# Altium footprint library Orion Sleep - Control Board - Rev 2.PcbLib: 102 footprints (part 3 of 7)
Each footprint in its own frame and in the unit in brackets; x right, y up, seen from the top. Pads: shape width x height; smd on the part's side, far side on the other; paste and mask are expansions set on the pad; w line width, h text height; cw(c..) or ccw(c..) is an arc to the next point about the centre after c.
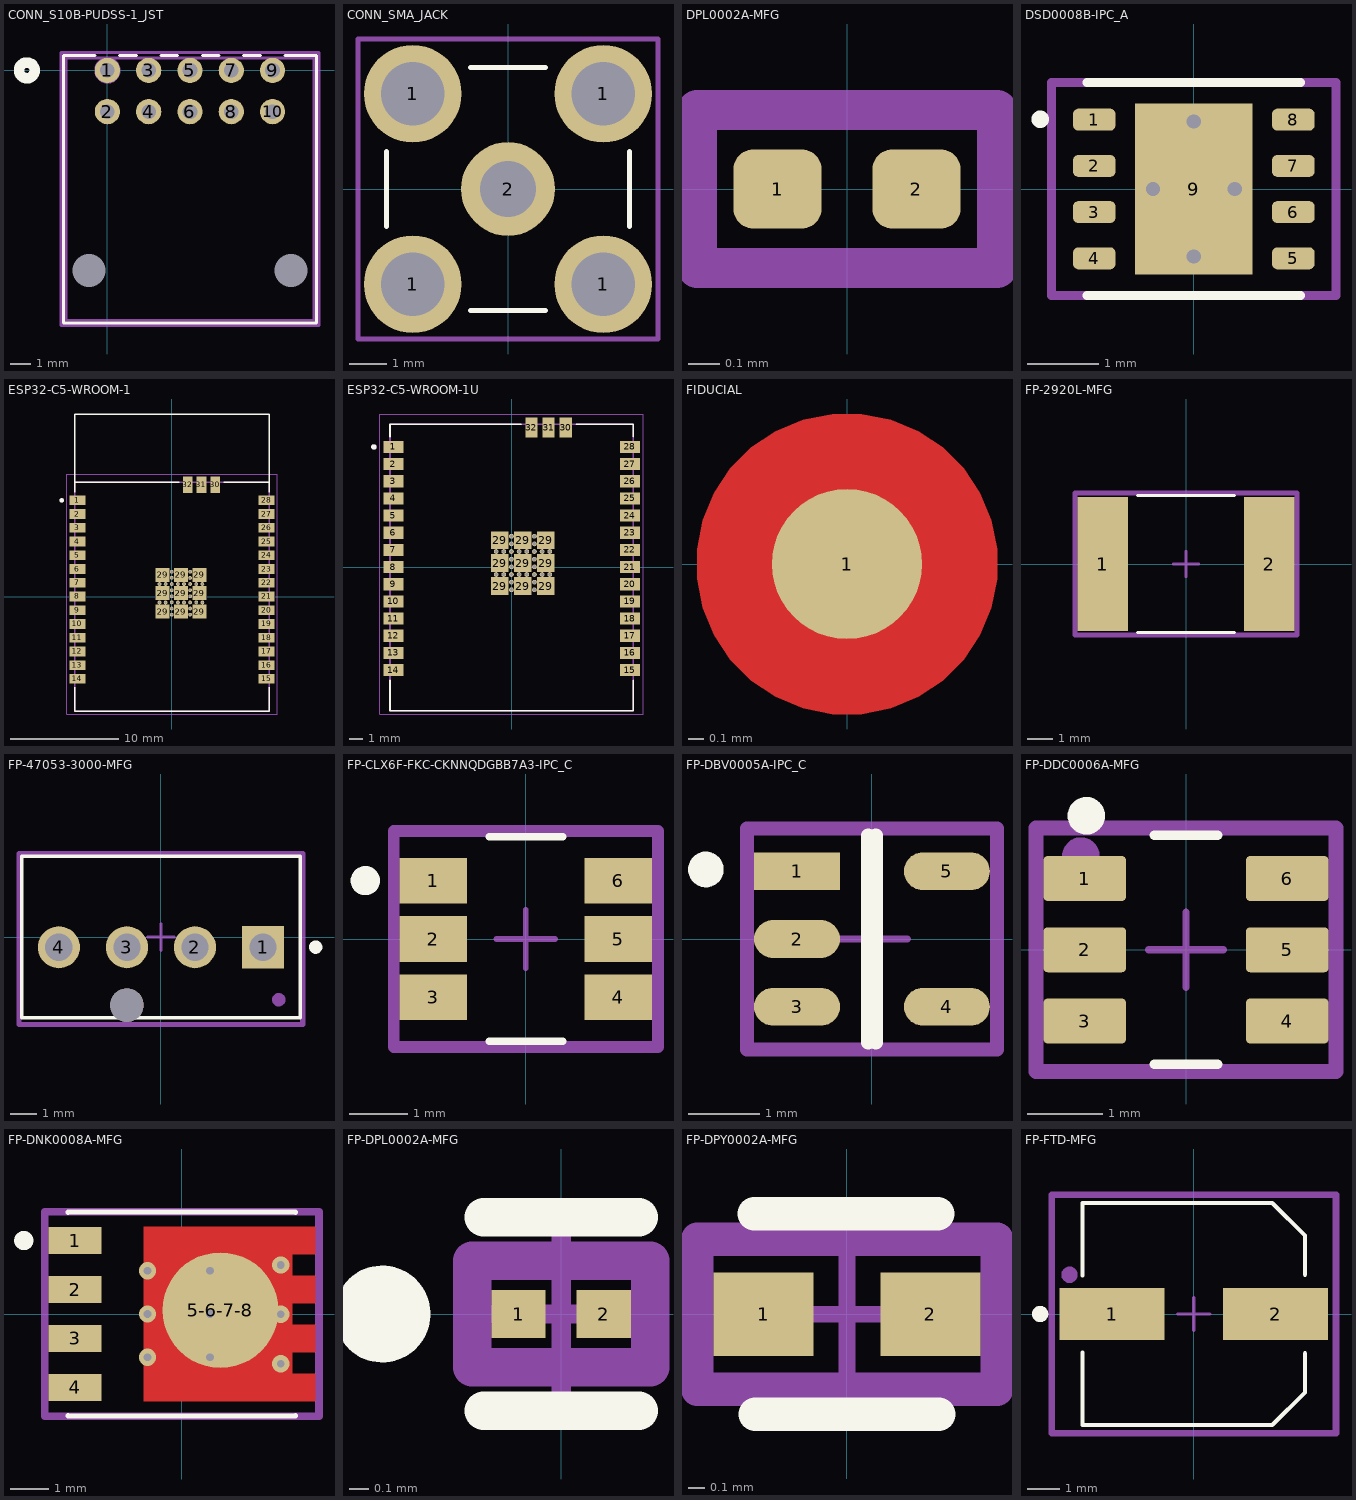
[diagram p2: the footprints below, top view; thin cyan lines are the x and y axes]

## CONN_S10B-PUDSS-1_JST [mil]
pads (12):
  round 48 / inner round 60 / far side round 48 hole 28 mask+1.97: 1(0,0) 2(0,-78.74) 3(78.74,0) 4(78.74,-78.74) 5(157.48,0) 6(157.48,-78.74) 7(236.22,0) 8(236.22,-78.74) 9(314.96,0) 10(314.96,-78.74)
  round 0 hole 63 unplated mask+1.97: 11(-35.43,-381.89) 12(350.39,-381.89)
Top Overlay:
  circle w20: c-153.52,0 r15
  lines w6: -23.6,28.62 -83.52,28.62 -83.52,-481.38 398.48,-481.38 398.48,28.62 338.57,28.62 ; 23.6,28.62 55.14,28.62 ; 102.34,28.62 133.88,28.62 ; 181.09,28.62 212.62,28.62 ; 259.83,28.62 291.36,28.62
Bottom Overlay:
  circle w20: c-153.52,0 r15
Top Assembly:
  circle w20: c0,0 r15
  lines w5: -78.52,-476.38 -78.52,23.62 393.48,23.62 393.48,-476.38 -78.52,-476.38
  text ".Designator" at -255.78,-254.58 h78.74
Top Courtyard:
  lines w6: -88.52,-486.38 403.48,-486.38 403.48,34 -88.52,34 -88.52,-486.38
3D body "S10B-PUDSS-1.STEP": height 335.15, standoff -117.61, extent -78.74,-476.38 393.7,23.62

## CONN_SMA_JACK [mm] "CONN SMA RCPT STR 50 OHM PCB"
pads (5):
  round 2.6 hole 1.7: 1(-2.54,-2.54) 1(-2.54,2.54) 1(2.54,-2.54) 1(2.54,2.54)
  round 2.5 hole 1.5: 2(0,0)
Top Overlay:
  lines w0.127: -3.238,-1 -3.238,1 ; -1,-3.238 1,-3.238 ; -1,3.238 1,3.238 ; 3.238,-1 3.238,1
Top Assembly:
  lines w0.127: -4,-4 -4,4 4,4 4,-4 -4,-4
  text ".Designator" at -5.078,-0.339 h1.02
3D body "RFPC-SMA28-F_1.0.STEP": height 9.6, standoff -3.9, extent -3.5,-3.5 3.5,3.5

## DPL0002A-MFG [mm] "DPL (R-PX2SON-N2) Texas Instruments"
height 0.32
pads (2):
  rrect50% 0.28x0.25 smd paste+0 mask+0: 1(-0.22,0) 2(0.22,0)
Top Assembly:
  lines w0.127: -0.475,-0.25 -0.475,0.25 0.475,0.25 0.475,-0.25 -0.475,-0.25
  text ".Designator" at -2.474,0.533 h0.5
3D body "DPL0002A.stp": height 0.32, standoff 0, extent -0.3,-0.15 0.3,0.15

## DSD0008B-IPC_A [mm] "WSON - 0.8 mm max height  / Texas Instruments / DSD0008B"
height 0.8
pads (9):
  rrect50% 0.6x0.31 smd: 1(-1.4,0.975) 2(-1.4,0.325) 3(-1.4,-0.325) 4(-1.4,-0.975) 5(1.4,-0.975) 6(1.4,-0.325) 7(1.4,0.325) 8(1.4,0.975)
  rect 1.65x2.4 smd paste-2539.97 mask+0: 9(0,0)
via 0,-0.95 diameter 0.4 hole 0.2
via 0,0.95 diameter 0.4 hole 0.2
via 0.575,0 diameter 0.4 hole 0.2
via -0.575,0 diameter 0.4 hole 0.2
Top Overlay:
  circle w0.127: c-2.16,0.982 r0.06
  lines w0.127: -1.5,-1.5 1.5,-1.5 ; -1.5,1.5 1.5,1.5
Top Paste:
  region: -0.737,-0.1 -0.737,-1.17 0.733,-1.17 0.733,-0.1
  region: 0.737,0.1 0.737,1.17 -0.733,1.17 -0.733,0.1
Top Assembly:
  circle w0.127: c-1.4,0.975 r0.061
  lines w0.127: -2,-1.5 -2,1.5 2,1.5 2,-1.5 -2,-1.5
  text ".Designator" at -4.998,-0.333 h1
3D body "DSD0008B.stp": height 0.77, standoff 0, extent -1.5,-1.5 1.5,1.5

## ESP32-C5-WROOM-1 [mm] "Footprint compatible to 1U version"
height 3.45
pads (68):
  rect 1.5x0.9 smd: 1(-8.75,8.91) 2(-8.75,7.64) 3(-8.75,6.37) 4(-8.75,5.1) 5(-8.75,3.83) 6(-8.75,2.56) 7(-8.75,1.29) 8(-8.75,0.02) 9(-8.75,-1.25) 10(-8.75,-2.52) 11(-8.75,-3.79) 12(-8.75,-5.06) 13(-8.75,-6.33) 14(-8.75,-7.6) 15(8.75,-7.6) 16(8.75,-6.33) 17(8.75,-5.06) 18(8.75,-3.79) 19(8.75,-2.52) 20(8.75,-1.25) 21(8.75,0.02) 22(8.75,1.29) 23(8.75,2.56) 24(8.75,3.83) 25(8.75,5.1) 26(8.75,6.37) 27(8.75,7.64) 28(8.75,8.91)
  round 0.35 hole 0.2 mask+0: 29(-1.152,-0.528) 29(-1.152,1.172) 29(-0.586,-0.528) 29(-0.586,1.172) 29(-0.02,-1.66) 29(-0.02,-1.094) 29(-0.02,-0.528) 29(-0.02,0.039) 29(-0.02,0.605) 29(-0.02,1.172) 29(-0.02,1.738) 29(-0.02,2.304) 29(0.547,-0.528) 29(0.547,1.172) 29(1.113,-0.528) 29(1.113,1.172) 29(1.68,-1.66) 29(1.68,-1.094) 29(1.68,-0.528) 29(1.68,0.039) 29(1.68,0.605) 29(1.68,1.172) 29(1.68,1.738) 29(1.68,2.304) 29(2.246,-0.528) 29(2.246,1.172) 29(2.812,-0.528) 29(2.812,1.172)
  rect 1.3x1.3 smd: 29(-0.87,-1.378) 29(-0.87,0.322) 29(-0.87,2.022) 29(0.83,-1.378) 29(0.83,0.322) 29(0.83,2.022) 29(2.53,-1.378) 29(2.53,0.322) 29(2.53,2.022)
  rect 0.9x1.5 smd: 30(4,10.35) 31(2.73,10.35) 32(1.46,10.35)
Top Overlay:
  circle w0.2: c-10.2,8.91 r0.1
  lines w0.127: -9,-8.37 -9,-10.6 9,-10.6 9,-8.37 ; -9,9.68 -9,10.6 ; 0.69,10.6 -9,10.6 ; 4.77,10.6 9,10.6 ; 9,9.68 9,10.6 ; -9,10.6 -9,16.9 9,16.9 9,10.6
Top Assembly:
  circle w0.2: c-10.2,8.91 r0.1
  lines w0.127: -9,-10.6 9,-10.6 9,10.6 -9,10.6 -9,-10.6
  text ".Designator" at -12.496,-0.833 h2.5
Top Courtyard:
  lines w0.05: -9.75,-10.85 -9.75,11.35 9.75,11.35 9.75,-10.85 -9.75,-10.85
3D body "ESP32-C5-WROOM-1_V1_3_20250619.STEP": height 3.33, standoff -0.01, extent -9,-10.6 9,16.9

## ESP32-C5-WROOM-1U [mm]
height 3.45
pads (68):
  rect 1.5x0.9 smd: 1(-8.75,8.91) 2(-8.75,7.64) 3(-8.75,6.37) 4(-8.75,5.1) 5(-8.75,3.83) 6(-8.75,2.56) 7(-8.75,1.29) 8(-8.75,0.02) 9(-8.75,-1.25) 10(-8.75,-2.52) 11(-8.75,-3.79) 12(-8.75,-5.06) 13(-8.75,-6.33) 14(-8.75,-7.6) 15(8.75,-7.6) 16(8.75,-6.33) 17(8.75,-5.06) 18(8.75,-3.79) 19(8.75,-2.52) 20(8.75,-1.25) 21(8.75,0.02) 22(8.75,1.29) 23(8.75,2.56) 24(8.75,3.83) 25(8.75,5.1) 26(8.75,6.37) 27(8.75,7.64) 28(8.75,8.91)
  rect 1.3x1.3 smd: 29(-0.87,-1.378) 29(-0.87,0.322) 29(-0.87,2.022) 29(0.83,-1.378) 29(0.83,0.322) 29(0.83,2.022) 29(2.53,-1.378) 29(2.53,0.322) 29(2.53,2.022)
  round 0.35 hole 0.25 mask+0: 29_10(-0.02,2.304) 29_11(-0.02,1.738) 29_12(1.68,2.304) 29_13(1.68,1.738) 29_14(-1.152,1.172) 29_15(-0.586,1.172) 29_16(-0.02,1.172) 29_17(0.547,1.172) 29_18(1.113,1.172) 29_19(1.68,1.172) 29_20(2.246,1.172) 29_21(2.812,1.172) 29_22(-0.02,0.605) 29_23(-0.02,0.039) 29_24(1.68,0.605) 29_25(1.68,0.039) 29_26(-1.152,-0.528) 29_27(-0.586,-0.528) 29_28(-0.02,-0.528) 29_29(0.547,-0.528) 29_30(1.113,-0.528) 29_31(1.68,-0.528) 29_32(2.246,-0.528) 29_33(2.812,-0.528) 29_34(-0.02,-1.094) 29_35(-0.02,-1.66) 29_36(1.68,-1.094) 29_37(1.68,-1.66)
  rect 0.9x1.5 smd: 30(4,10.35) 31(2.73,10.35) 32(1.46,10.35)
Top Overlay:
  circle w0.2: c-10.2,8.91 r0.1
  lines w0.127: -9,-8.37 -9,-10.6 9,-10.6 9,-8.37 ; -9,9.68 -9,10.6 0.69,10.6 ; 4.77,10.6 9,10.6 9,9.68
Top Assembly:
  circle w0.2: c-10.2,8.91 r0.1
  lines w0.127: -9,-10.6 9,-10.6 9,10.6 -9,10.6 -9,-10.6
  text ".Designator" at -12.496,-0.833 h2.5
Top Courtyard:
  lines w0.05: -9.75,-10.85 -9.75,11.35 9.75,11.35 9.75,-10.85 -9.75,-10.85
3D body "step_temp.STEP": height 3.45, standoff 0, extent -9,-10.6 9,10.6

## FIDUCIAL [mm] "1mm fiducial point with"
pads (1):
  round 1 smd paste-2539.97 mask+0.5: 1(0,0)
Top Layer:
  pour cut-out: 0,-1 -0.098,-1 -0.292,-0.962 -0.474,-0.886 -0.637,-0.777 -0.777,-0.637 -0.886,-0.474 -0.962,-0.292 -1,-0.098 -1,0 -1,0.098 -0.962,0.292 -0.886,0.474 -0.777,0.637 -0.637,0.777 -0.474,0.886 -0.292,0.962 -0.098,1 0,1 0.098,1 0.292,0.962 0.474,0.886 0.637,0.777 0.777,0.637 0.886,0.474 0.962,0.292 1,0.098 1,0 1,-0.098 0.962,-0.292 0.886,-0.474 0.777,-0.637 0.637,-0.777 0.474,-0.886 0.292,-0.962 0.098,-1

## FP-2920L-MFG [mm]
pads (2):
  rect 2x5.3 smd: 1(-3.3,0) 2(3.3,0)
Top Overlay:
  lines w0.127: -1.925,-2.72 1.925,-2.72 ; -1.925,2.72 1.925,2.72
Top Assembly:
  lines w0.127: -4.4,-2.82 4.4,-2.82 4.4,2.82 -4.4,2.82 -4.4,-2.82
  text ".Designator" at -4.998,-0.333 h1
Top Courtyard:
  lines w0.2: -4.4,-2.82 4.4,-2.82 4.4,2.82 -4.4,2.82 -4.4,-2.82
Top Component Center:
  lines w0.1: -0.5,0 0.5,0 ; 0,-0.5 0,0.5
3D body "Fuse_Littelfuse_2920L500-16MR_eec.STEP": height 1.25, standoff 0, extent -3.67,-2.558 3.685,2.562

## FP-47053-3000-MFG [mm]
pads (5):
  rect 1.57x1.57 hole 1.02 mask+0.05: 1(3.81,-0.38)
  round 1.57 hole 1.02 mask+0.05: 2(1.27,-0.38) 3(-1.27,-0.38) 4(-3.81,-0.38)
  round 1.25 hole 1.25 unplated mask+0.05: ""(-1.27,-2.54)
Top Overlay:
  circle w0.25: c5.775,-0.375 r0.125
  lines w0.127: -5.2,-3.02 -5.2,3.02 5.2,3.02 5.2,-3.02 -5.2,-3.02
Top Assembly:
  circle w0.25: c4.4,-2.34 r0.125
  lines w0.127: -5.3,-3.265 -5.3,3.12 5.3,3.12 5.3,-3.265 -5.3,-3.265
  text ".Designator" at -4.998,-0.333 h1
Top Courtyard:
  lines w0.2: -5.3,-3.265 -5.3,3.12 5.3,3.12 5.3,-3.265 -5.3,-3.265
Top Component Center:
  lines w0.1: -0.5,0 0.5,0 ; 0,-0.5 0,0.5
3D body "Conn_Molex_47053-3000_eec.STEP": height 10.29, standoff -4, extent -5.1,-2.921 5.101,2.92

## FP-CLX6F-FKC-CKNNQDGBB7A3-IPC_C [mm]
pads (6):
  rect 1.16x0.78 smd paste+0 mask+0: 1(-1.585,1) 2(-1.585,0) 3(-1.585,-1) 4(1.585,-1) 5(1.585,0) 6(1.585,1)
Top Overlay:
  circle w0.25: c-2.75,1 r0.125
  lines w0.127: -0.63,-1.75 0.63,-1.75 ; -0.63,1.75 0.63,1.75
Top Assembly:
  circle w0.127: c-1.585,1 r0.121
  lines w0.2: -2.265,-1.85 2.265,-1.85 2.265,1.85 -2.265,1.85 -2.265,-1.85
  text ".Designator" at -4.998,-0.333 h1
Top Courtyard:
  lines w0.2: -2.265,-1.85 2.265,-1.85 2.265,1.85 -2.265,1.85 -2.265,-1.85
Top Component Center:
  lines w0.1: -0.5,0 0.5,0 ; 0,-0.5 0,0.5
3D body "Diode_Cree_CLX6F-FKC-CKNNQDGBB7A363_eec.STEP": height 0.25, standoff 0, extent -2.265,-1.85 2.265,1.85

## FP-DBV0005A-IPC_C [mm]
pads (5):
  rect 1.205x0.532 smd paste+0 mask+0: 1(-1.05,0.95)
  rrect100% 1.205x0.532 smd paste+0 mask+0: 2(-1.05,0) 3(-1.05,-0.95) 4(1.05,-0.95) 5(1.05,0.95)
Top Overlay:
  circle w0.25: c-2.328,0.975 r0.125
  lines w0.2: -0.052,-1.45 -0.052,1.45 ; 0.052,-1.45 0.052,1.45
Top Assembly:
  circle w0.127: c-1.05,0.95 r0.115
  lines w0.127: -1.753,-1.55 1.753,-1.55 1.753,1.55 -1.753,1.55 -1.753,-1.55
  text ".Designator" at -4.998,-0.333 h1
Top Courtyard:
  lines w0.2: -1.753,-1.55 1.753,-1.55 1.753,1.55 -1.753,1.55 -1.753,-1.55
Top Component Center:
  lines w0.1: -0.5,0 0.5,0 ; 0,-0.5 0,0.5
3D body "IC_Texas_Instruments_SN74AHC1G00DBVR_eec.STEP": height 0.25, standoff 0, extent -1.753,-1.55 1.753,1.55

## FP-DDC0006A-MFG [mm]
pads (6):
  rrect17% 1.1x0.6 smd: 1(-1.35,0.95) 2(-1.35,0) 3(-1.35,-0.95) 4(1.35,-0.95) 5(1.35,0) 6(1.35,0.95)
Top Overlay:
  circle w0.25: c-1.329,1.787 r0.125
  lines w0.127: -0.425,-1.525 0.425,-1.525 ; -0.425,1.525 0.425,1.525
Top Assembly:
  circle w0.25: c-1.401,1.25 r0.125
  lines w0.127: -2,-1.625 2,-1.625 2,1.625 -2,1.625 -2,-1.625
  text ".Designator" at -4.998,-0.333 h1
Top Courtyard:
  lines w0.2: -2,-1.625 2,-1.625 2,1.625 -2,1.625 -2,-1.625
Top Component Center:
  lines w0.1: -0.5,0 0.5,0 ; 0,-0.5 0,0.5
3D body "IC_Texas_Instruments_TPS562201DDCT_eec.STEP": height 1.1, standoff 0, extent -1.4,-1.45 1.4,1.45

## FP-DNK0008A-MFG [mm]
pads (5):
  rect 1.372x0.71 smd paste-2539.97 mask+0.05: 1(-2.77,1.905) 2(-2.77,0.635) 3(-2.77,-0.635) 4(-2.77,-1.905)
  round 3 smd paste-2539.97 mask+0.05: 5-6-7-8(1,0.1)
via -0.892,-1.124 diameter 0.45 hole 0.2
via -0.892,0 diameter 0.45 hole 0.2
via -0.892,1.122 diameter 0.45 hole 0.2
via 0.731,1.122 diameter 0.45 hole 0.2
via 0.731,-1.124 diameter 0.45 hole 0.2
via 0.731,0 diameter 0.45 hole 0.2
via 2.567,1.273 diameter 0.45 hole 0.2
via 2.567,-0.01 diameter 0.45 hole 0.2
via 2.567,-1.293 diameter 0.45 hole 0.2
Top Layer:
  region: -0.984,-2.26 3.456,-2.26 3.456,-1.55 2.866,-1.55 2.866,-0.99 3.456,-0.99 3.456,-0.28 2.866,-0.28 2.866,0.28 3.456,0.28 3.456,0.99 2.866,0.99 2.866,1.55 3.456,1.55 3.456,2.26 -0.984,2.26
Top Overlay:
  circle w0.25: c-4.1,1.905 r0.125
  lines w0.127: -2.95,-2.635 -2.95,-2.65 2.95,-2.65 2.95,-2.635 ; -2.95,2.635 -2.95,2.65 2.95,2.65 2.95,2.635
Top Paste:
  rectangle: 2.279,-2.159 3.356,-1.651
  rectangle: 2.282,-0.889 3.356,-0.381
  rectangle: 2.28,1.63 3.384,2.138
  rectangle: -0.82,1.138 0.68,2.138
  rectangle: 0.78,1.138 2.28,2.138
  rectangle: 0.78,0.038 2.28,1.038
  rectangle: -0.82,0.038 0.68,1.038
  rectangle: -0.82,-1.062 0.68,-0.062
  rectangle: 0.78,-2.162 2.28,-1.162
  rectangle: 0.78,-1.062 2.28,-0.062
  rectangle: -0.82,-2.162 0.68,-1.162
  rectangle: -3.293,-2.186 -2.221,-1.624
  rectangle: -3.293,-0.916 -2.221,-0.354
  rectangle: -3.293,0.354 -2.221,0.916
  rectangle: -3.293,1.624 -2.221,2.186
  rectangle: 2.277,0.381 3.356,0.889
Top Assembly:
  circle w0.25: c-3,2 r0.125
  lines w0.127: -3.556,-2.65 -3.556,2.65 3.556,2.65 3.556,-2.65 -3.556,-2.65
  text ".Designator" at -9.997,-0.666 h2
Top Courtyard:
  lines w0.2: -3.556,-2.65 -3.556,2.65 3.556,2.65 3.556,-2.65 -3.556,-2.65
Top Component Center:
  lines w0.1: -0.5,0 0.5,0 ; 0,-0.5 0,0.5
3D body "Trans_Texas_Instruments_CSD19532Q5B_eec.STEP": height 1.05, standoff 0, extent -3,-2.5 3,2.5

## FP-DPL0002A-MFG [mm]
pads (2):
  rect 0.28x0.25 smd paste+0 mask+0: 1(-0.22,0) 2(0.22,0)
Top Overlay:
  circle w0.25: c-0.925,0 r0.125
  lines w0.2: -0.4,-0.5 0.4,-0.5 ; -0.4,0.5 0.4,0.5
Top Assembly:
  circle w0.127: c-0.925,0 r0.125
  lines w0.127: -0.46,-0.275 -0.46,0.275 0.46,0.275 0.46,-0.275 -0.46,-0.275
  text ".Designator" at -1.5,-0.1 h0.3
Top Courtyard:
  lines w0.2: -0.46,-0.275 -0.46,0.275 0.46,0.275 0.46,-0.275 -0.46,-0.275
Top Component Center:
  lines w0.1: -0.5,0 0.5,0 ; 0,-0.5 0,0.5
3D body "Diode_Texas_Instruments_ESD441DPLR_eec.STEP": height 0.32, standoff 0, extent -0.3,-0.15 0.3,0.15

## FP-DPY0002A-MFG [mm]
pads (2):
  rect 0.6x0.5 smd paste+0 mask+0: 1(-0.5,0) 2(0.5,0)
Top Overlay:
  lines w0.2: -0.556,0.604 0.544,0.604 ; -0.55,-0.6 0.55,-0.6
Top Assembly:
  lines w0.127: -0.9,-0.45 0.9,-0.45 0.9,0.45 -0.9,0.45 -0.9,-0.45
  text ".Designator" at -2.499,-0.167 h0.5
Top Courtyard:
  lines w0.2: -0.9,-0.45 0.9,-0.45 0.9,0.45 -0.9,0.45 -0.9,-0.45
Top Component Center:
  lines w0.1: -0.5,0 0.5,0 ; 0,-0.5 0,0.5
3D body "Diode_Texas_Instruments_TPD1E1B04DPYR_eec.STEP": height 0.45, standoff 0, extent -0.5,-0.3 0.5,0.3

## FP-FTD-MFG [mm]
pads (2):
  rect 3.2x1.6 smd: 1(-2.5,0) 2(2.5,0)
Top Overlay:
  circle w0.25: c-4.7,0 r0.125
  lines w0.127: -3.4,-1.175 -3.4,-3.4 2.4,-3.4 3.4,-2.4 3.4,-1.2 ; -3.4,1.175 -3.4,3.4 2.4,3.4 3.4,2.4 3.4,1.2
Top Assembly:
  circle w0.25: c-3.8,1.2 r0.125
  lines w0.127: -4.35,-3.65 4.35,-3.65 4.35,3.65 -4.35,3.65 -4.35,-3.65
  text ".Designator" at -4.998,-0.333 h1
Top Courtyard:
  lines w0.2: -4.35,-3.65 4.35,-3.65 4.35,3.65 -4.35,3.65 -4.35,-3.65
Top Component Center:
  lines w0.1: -0.5,0 0.5,0 ; 0,-0.5 0,0.5
3D body "Cap_Panasonic_EEEFT1V101AP_eec.STEP": height 6.1, standoff 0, extent -3.9,-3.3 3.9,3.3